# EAGLE library part 776280-2 (library te_connectivity)
TE Connectivity AMPSEAL 8 POS RTANG HDR ASSY W/GASKET
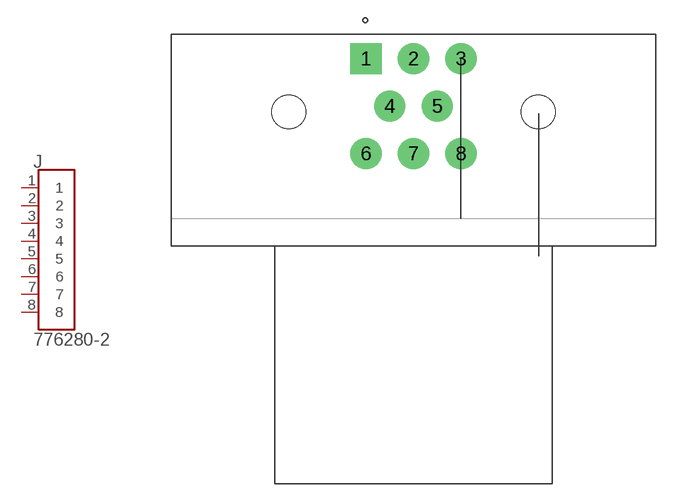
[diagram p0: symbol with the pads of TE_776280-2; footprint TE_776280-2]

Designator prefix J

## 776280-2 (MANUFACTURER: TE CONNECTIVITY; PARTREV: F8; STANDARD: MANUFACTURER RECOMMENDATION)  [TE_776280-2]
1  1  pas
2  2  pas
3  3  pas
4  4  pas
5  5  pas
6  6  pas
7  7  pas
8  8  pas

## Footprint TE_776280-2 (pad centres in mm)
drill 1.75 square: 1 -4,4
drill 1.75: 2 0,4; 3 4,4; 4 -2,0; 5 2,0; 6 -4,-4; 7 0,-4; 8 4,-4
hole 2.85 at -10.5,-0.5
hole 2.85 at 10.5,-0.5